# Altium schematic symbol library TI TPS34914.SchLib: 1 symbol
Pins are listed as number, name and electrical type; pins without a type are passive.

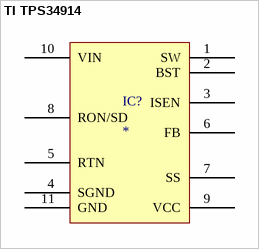
[diagram p0: symbol TI TPS34914]

## TI TPS34914
designator IC?
pins: 1 SW, 2 BST, 3 ISEN, 4 SGND, 5 RTN, 6 FB, 7 SS, 8 RON/SD, 9 VCC, 10 VIN, 11 GND